# EAGLE library part 48405-0003 (library my_try)
USB 3.0 connector attempt, MOLEX 48405-0003
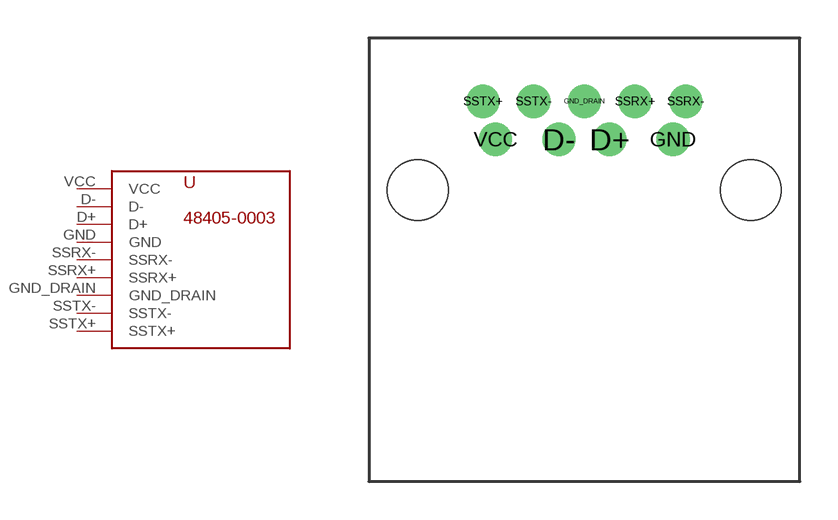
[diagram p0: symbol with the pads of 48405-0003MYVERSION; footprint 48405-0003MYVERSION]

Designator prefix -

## 48405-0003  [48405-0003MYVERSION]
D+  D+
D-  D-
GND  GND
GND_DRAIN  GND_DRAIN
SSRX+  SSRX+
SSRX-  SSRX-
SSTX+  SSTX+
SSTX-  SSTX-
VCC  VCC

## Footprint 48405-0003MYVERSION (pad centres in mm)
A package for the USB 3.0 connecotr from Molex, 48405-0003
drill 0.8: D+ -6.11,-2.77; D- -8.11,-2.77; GND -3.61,-2.77; GND_DRAIN -7.11,-1.27; SSRX+ -5.11,-1.27; SSRX- -3.11,-1.27; SSTX+ -11.11,-1.27; SSTX- -9.11,-1.27; VCC -10.61,-2.77
hole 2.4 at -13.68,-4.77
hole 2.4 at -0.54,-4.77